# Altium footprint library 691 210 910 0xx.PcbLib: 6 footprints
Each footprint in its own frame and in the unit in brackets; x right, y up, seen from the top. Pads: shape width x height; smd on the part's side, far side on the other; paste and mask are expansions set on the pad; w line width, h text height; cw(c..) or ccw(c..) is an arc to the next point about the centre after c.
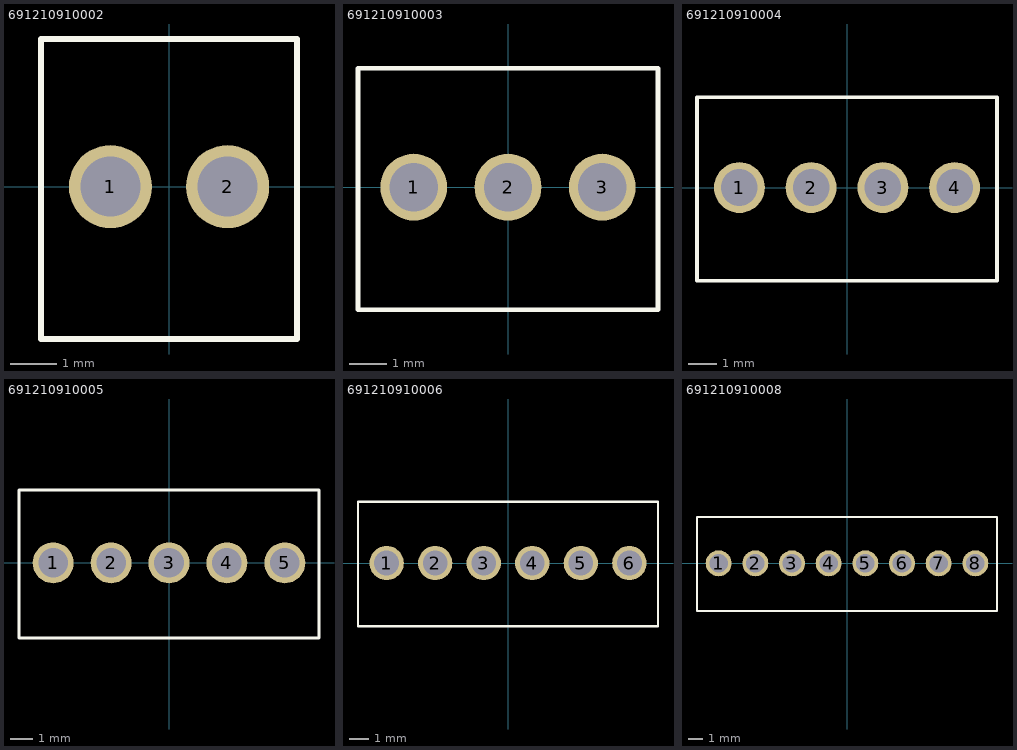
[diagram p0: the footprints below, top view; thin cyan lines are the x and y axes]

## 691210910002 [mm] "2,54mm - modular - green - Horizontal wire entry - Cage clamp - 0,8mm2 wires - 02p"
height 8.5
pads (2):
  round 1.8 hole 1.3: 1(-1.27,0) 2(1.27,0)
Top Overlay:
  lines w0.127: -2.77,-3.3 -2.77,3.2 2.77,3.2 2.77,-3.3 -2.77,-3.3
3D body: height 8.75, standoff -2.85, extent -2.77,-3.3 2.77,3.2

## 691210910003 [mm] "2,54mm - modular - green - Horizontal wire entry - Cage clamp - 0,8mm2 wires - 03p"
height 8.5
pads (3):
  round 1.8 hole 1.3: 1(-2.54,0) 2(0,0) 3(2.54,0)
Top Overlay:
  lines w0.127: -4.04,-3.3 4.04,-3.3 4.04,3.2 -4.04,3.2 -4.04,-3.3
3D body: height 8.75, standoff -2.85, extent -4.04,-3.3 4.04,3.2

## 691210910004 [mm] "2,54mm - modular - green - Horizontal wire entry - Cage clamp - 0,8mm2 wires - 04p"
height 8.5
pads (4):
  round 1.8 hole 1.3: 1(-3.81,0) 2(-1.27,0) 3(1.27,0) 4(3.81,0)
Top Overlay:
  lines w0.127: -5.31,-3.3 5.31,-3.3 5.31,3.2 -5.31,3.2 -5.31,-3.3
3D body: height 8.75, standoff -2.85, extent -5.31,-3.3 5.31,3.2

## 691210910005 [mm] "2,54mm - modular - green - Horizontal wire entry - Cage clamp - 0,8mm2 wires - 05p"
height 8.5
pads (5):
  round 1.8 hole 1.3: 1(-5.08,0) 2(-2.54,0) 3(0,0) 4(2.54,0) 5(5.08,0)
Top Overlay:
  lines w0.127: -6.58,-3.3 6.58,-3.3 6.58,3.2 -6.58,3.2 -6.58,-3.3
3D body: height 8.75, standoff -2.85, extent -6.58,-3.3 6.58,3.2

## 691210910006 [mm] "2,54mm - modular - green - Horizontal wire entry - Cage clamp - 0,8mm2 wires - 06p"
height 8.5
pads (6):
  round 1.8 hole 1.3: 1(-6.35,0) 2(-3.81,0) 3(-1.27,0) 4(1.27,0) 5(3.81,0) 6(6.35,0)
Top Overlay:
  lines w0.127: -7.85,-3.3 7.85,-3.3 7.85,3.2 -7.85,3.2 -7.85,-3.3
3D body: height 8.75, standoff -2.85, extent -7.85,-3.3 7.85,3.2

## 691210910008 [mm] "2,54mm - modular - green - Horizontal wire entry - Cage clamp - 0,8mm2 wires - 08p"
height 8.5
pads (8):
  round 1.8 hole 1.3: 1(-8.89,0) 2(-6.35,0) 3(-3.81,0) 4(-1.27,0) 5(1.27,0) 6(3.81,0) 7(6.35,0) 8(8.89,0)
Top Overlay:
  lines w0.127: -10.39,-3.3 -10.39,3.2 10.39,3.2 10.39,-3.3 -10.39,-3.3
3D body: height 8.75, standoff -2.85, extent -10.39,-3.3 10.39,3.2